# EAGLE library part 74HC595 (library thomas_library)
The 74HC595 is an 8-bit shift register with output latches
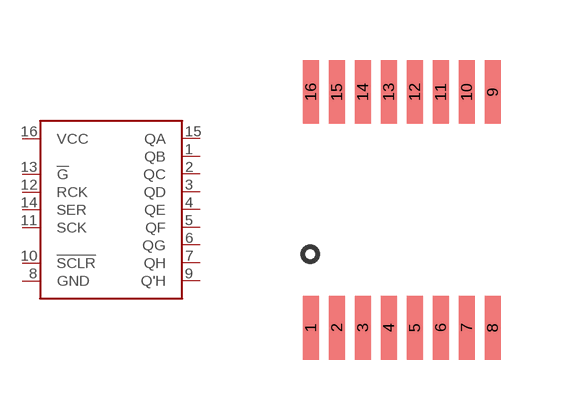
[diagram p8: symbol with the pads of TSSOP_16; footprint TSSOP_16]

Designator prefix IC

## 74HC595  [TSSOP_16]
1  QB
2  QC
3  QD
4  QE
5  QF
6  QG
7  QH
8  GND
9  Q'H
10  !SCLR
11  SCK
12  RCK
13  !G
14  SER
15  QA
16  VCC

## Footprint TSSOP_16 (pad centres in mm)
This TSSOP-16 footprint has 0.4mm x 1.6mm pin pads, 0.65mm spacing, 5.6mm diameter
smd 0.4 x 1.6: 1 -2.275,-2.85; 2 -1.625,-2.85; 3 -0.975,-2.85; 4 -0.325,-2.85; 5 0.325,-2.85; 6 0.975,-2.85; 7 1.625,-2.85; 8 2.275,-2.85; 9 2.275,3.05; 10 1.625,3.05; 11 0.975,3.05; 12 0.325,3.05; 13 -0.325,3.05; 14 -0.975,3.05; 15 -1.625,3.05; 16 -2.275,3.05